# Altium footprint library IND_CDRH105RNP-6R8NC.PcbLib: 1 footprints
Each footprint in its own frame and in the unit in brackets; x right, y up, seen from the top. Pads: shape width x height; smd on the part's side, far side on the other; paste and mask are expansions set on the pad; w line width, h text height; cw(c..) or ccw(c..) is an arc to the next point about the centre after c.
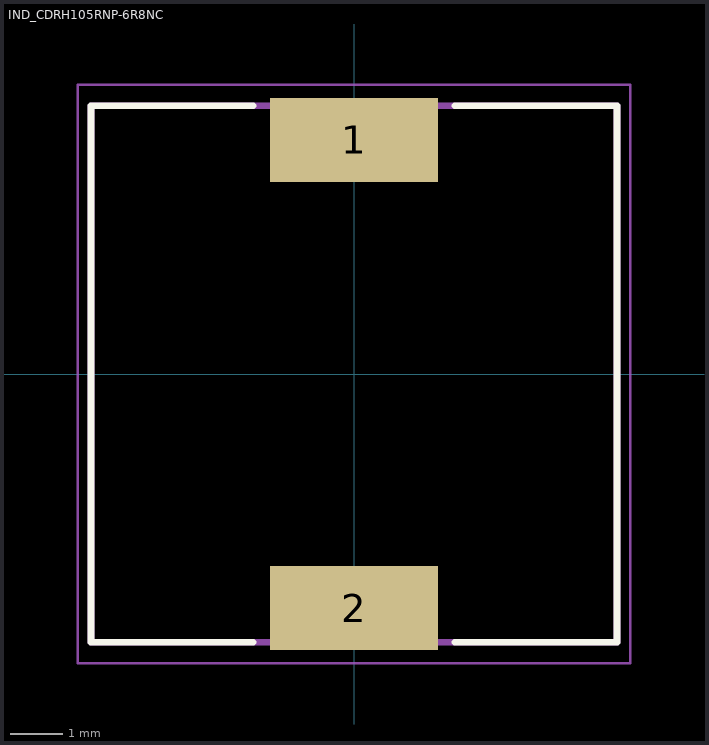
[diagram p0: the footprint, top view; thin cyan lines are the x and y axes]

## IND_CDRH105RNP-6R8NC [mm]
pads (2):
  rect 3.2x1.6 smd: 1(0,4.45) 2(0,-4.45)
Top Overlay:
  lines w0.127: -1.92,-5.1 -5,-5.1 -5,5.1 -1.92,5.1 ; 1.92,-5.1 5,-5.1 5,5.1 1.92,5.1
Mechanical 13:
  lines w0.127: -5,-5.1 5,-5.1 5,5.1 -5,5.1 -5,-5.1
Mechanical 15:
  lines w0.05: -5.25,-5.5 -5.25,5.5 5.25,5.5 5.25,-5.5 -5.25,-5.5